# EAGLE library part SN74LVC2G07 (library IC)
SN74LVC2G07 Dual non-inverting buffer/driver with open-drain outputs
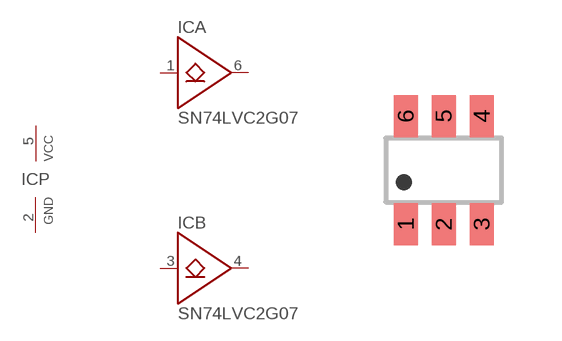
[diagram p1: symbol with the pads of SOT-23-6; footprint SOT-23-6]

Designator prefix IC; gates A=BUFFER_OC_NONINVERT B=BUFFER_OC_NONINVERT P=PWRN

## SN74LVC2G07BVR  [SOT-23-6]
1  A:A  in
2  P:GND  pwr
3  B:A  in
4  B:Y  oc
5  P:VCC  pwr
6  A:Y  oc

## Footprint SOT-23-6 (pad centres in mm)
smd 0.6 x 1.05: 1 -0.95,-1.35; 2 0,-1.35; 3 0.95,-1.35; 4 0.95,1.35; 5 0,1.35; 6 -0.95,1.35